# EAGLE library part HEADER_1X6 (library logic-supply)
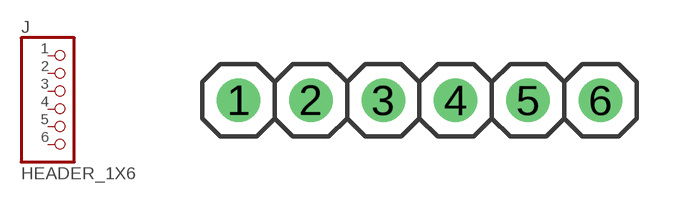
[diagram p20: symbol with the pads of HEADER_1X6; footprint HEADER_1X6]

Designator prefix J

## HEADER_1X6  [HEADER_1X6]
1  1  pas
2  2  pas
3  3  pas
4  4  pas
5  5  pas
6  6  pas

## Footprint HEADER_1X6 (pad centres in mm)
drill 1.016: 1 0,0; 2 2.54,0; 3 5.08,0; 4 7.62,0; 5 10.16,0; 6 12.7,0